# EAGLE library part JS202011JCQN (library OPEnS-RTC)
2 position 3x2 pin switch, two row, JS202011JCQN, SMD
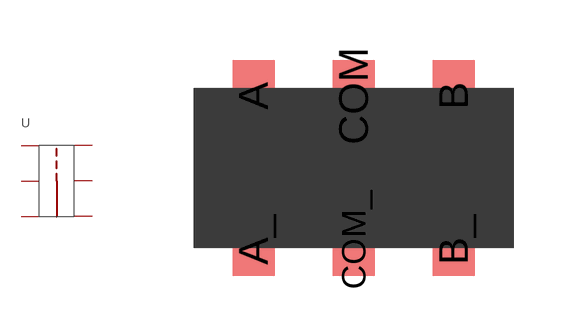
[diagram p0: symbol with the pads of VERTICAL_MNT_SMT-J; footprint VERTICAL_MNT_SMT-J]

Designator prefix -

## JS202011JCQN  [VERTICAL_MNT_SMT-J]
A  A
A_  A_
B  B
B_  B_
COM  COM
COM_  COM_

## Footprint VERTICAL_MNT_SMT-J (pad centres in mm)
smd 1.05 x 1.8: A -2.5,1.8; A_ -2.5,-1.8; B 2.5,1.8; B_ 2.5,-1.8; COM 0,1.8; COM_ 0,-1.8